# EAGLE library part USBLC6-2P6 (library Clock)
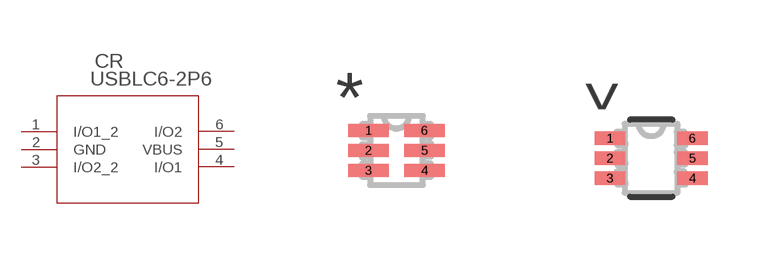
[diagram p2: symbol with the pads of SOT-666; footprints SOT-666, SOT-666-M]

Designator prefix CR

## USBLC6-2P6 (BUILT_BY: EMA_UL_Team; MANUFACTURER_PART_NUMBER: USBLC6-2P6; VENDOR: STMicroelectronics)  [SOT-666]
1  I/O1_2
2  GND  pwr
3  I/O2_2
4  I/O1
5  VBUS  pwr
6  I/O2

## USBLC6-2P6SOT-666-M (BUILT_BY: EMA_UL_Team; MANUFACTURER_PART_NUMBER: USBLC6-2P6; VENDOR: STMicroelectronics)  [SOT-666-M]
Pads as for SOT-666

## USBLC6-2P6SOT-666-L (BUILT_BY: EMA_UL_Team; MANUFACTURER_PART_NUMBER: USBLC6-2P6; VENDOR: STMicroelectronics)  [SOT-666-L]
Pads as for SOT-666

## Footprint SOT-666 (pad centres in mm)
smd 1.016 x 0.33: 1 -0.699,0.5; 2 -0.699,0; 3 -0.699,-0.5; 4 0.699,-0.5; 5 0.699,0; 6 0.699,0.5

## Footprint SOT-666-M (pad centres in mm)
smd 0.762 x 0.33: 1 -1.029,0.5; 2 -1.029,0; 3 -1.029,-0.5; 4 1.029,-0.5; 5 1.029,0; 6 1.029,0.5

## Footprint SOT-666-L (pad centres in mm)
smd 0.356 x 0.229: 1 -0.826,0.5; 2 -0.826,0; 3 -0.826,-0.5; 4 0.826,-0.5; 5 0.826,0; 6 0.826,0.5